# Altium schematic symbol library ComponentsLibrary.SchLib: 10 symbols
Pins are listed as number, name and electrical type; pins without a type are passive.

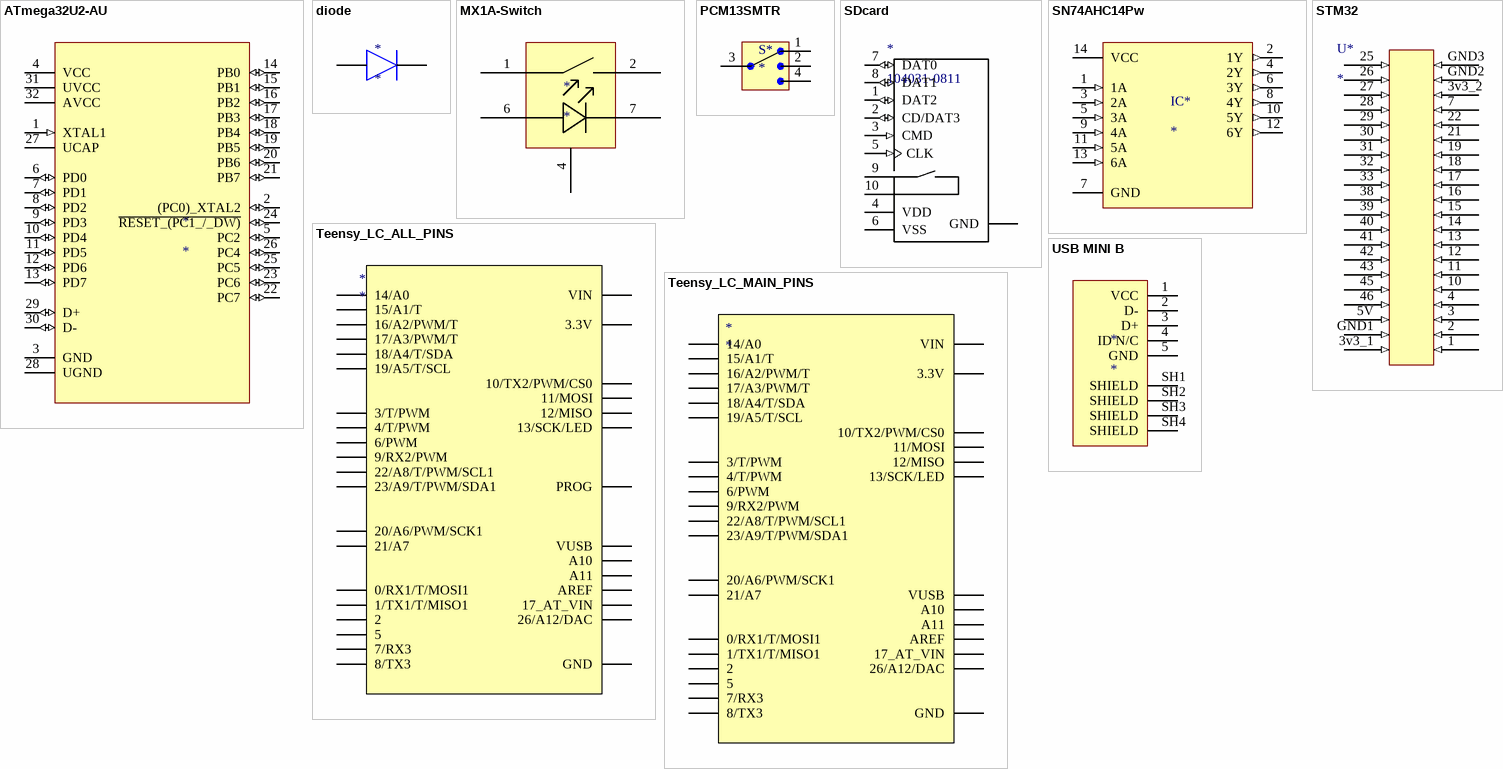
[diagram p0: symbols ATmega32U2-AU to USB MINI B]

## ATmega32U2-AU
designator *
pins: 1 XTAL1 (in), 2 (PC0)_XTAL2 (io), 3 GND, 4 VCC (power), 5 PC2 (io), 6 PD0 (io), 7 PD1 (io), 8 PD2 (io), 9 PD3 (io), 10 PD4 (io), 11 PD5 (io), 12 PD6 (io), 13 PD7 (io), 14 PB0 (io), 15 PB1 (io), 16 PB2 (io), 17 PB3 (io), 18 PB4 (io), 19 PB5 (io), 20 PB6 (io), 21 PB7 (io), 22 PC7 (io), 23 PC6 (io), 24 ~{RESET_(PC1_/_DW)} (io), 25 PC5 (io), 26 PC4 (io), 27 UCAP (power), 28 UGND, 29 D+ (io), 30 D- (io), 31 UVCC (power), 32 AVCC (power)

## diode
designator *
footprint diode
pins: 1 K, 2 A

## MX1A-Switch
designator *
footprint MX1A-Switch
pins: 1, 2, 4, 6, 7

## PCM13SMTR
designator S*
SP3T Ultraminiature surface mount slide switch
footprint PCM-13SMTR (SP3T)
pins: 1, 2, 3, 4

## SDcard
designator *, comment 104031-0811
pins: 1 DAT2 (io), 2 CD/DAT3 (io), 3 CMD (in), 4 VDD (power), 5 CLK (in), 6 VSS (power), 7 DAT0 (io), 8 DAT1 (io), 9 CARD_DET1, 10 CARD_DET2, G1 GND (power), G2 GND (power), G3 GND (power), G4 GND (power)

## SN74AHC14Pw
designator IC*
6 inverting schmitt trigger
footprint TSSOP-14 (for SN74AHC14PW)
pins: 1 1A (in), 2 1Y (out), 3 2A (in), 4 2Y (out), 5 3A (in), 6 3Y (out), 7 GND, 8 4Y (out), 9 4A (in), 10 5Y (out), 11 5A (in), 12 6Y (out), 13 6A (in), 14 VCC (power)

## STM32
designator U*
STM32F103
footprint DIP40
pins: 1 (in), 2 (in), 3 (in), 3v3_1 (in), 3v3_2 (in), 4 (in), 5V (in), 7 (in), 10 (in), 11 (in), 12 (in), 13 (in), 14 (in), 15 (in), 16 (in), 17 (in), 18 (in), 19 (in), 21 (in), 22 (in), 25 (in), 26 (in), 27 (in), 28 (in), 29 (in), 30 (in), 31 (in), 32 (in), 33 (in), 38 (in), 39 (in), 40 (in), 41 (in), 42 (in), 43 (in), 45 (in), 46 (in), GND1 (in), GND2 (in), GND3 (in)

## Teensy_LC_ALL_PINS
designator *
footprint Teensy_LC_ALL_PINS
footprint Teensy_LC_ALL_SMD
pins: 0 0/RX1/T/MOSI1, 1 1/TX1/T/MISO1, 2, 3 3/T/PWM, 3.3V (power), 4 4/T/PWM, 5, 6 6/PWM, 7 7/RX3, 8 8/TX3, 9 9/RX2/PWM, 10 10/TX2/PWM/CS0, 11 11/MOSI, 12 12/MISO, 13 13/SCK/LED, 14/A0, 15/A1 15/A1/T, 16/A2 16/A2/PWM/T, 17/A3 17/A3/PWM/T, 18/A4 18/A4/T/SDA, 19/A5 19/A5/T/SCL, 20/A6 20/A6/PWM/SCK1, 21/A7, 22/A8 22/A8/T/PWM/SCL1, 23/A9 23/A9/T/PWM/SDA1, A10, A11, AREF (power), GND (power), PGM PROG, RESET/DAC 26/A12/DAC (power), VBAT 17_AT_VIN, VIN (power), VUSB (power)

## Teensy_LC_MAIN_PINS
designator *
footprint Teensy_LC_SMD_MAIN
pins: 0 0/RX1/T/MOSI1, 1 1/TX1/T/MISO1, 2, 3 3/T/PWM, 3.3V (power), 4 4/T/PWM, 5, 6 6/PWM, 7 7/RX3, 8 8/TX3, 9 9/RX2/PWM, 10 10/TX2/PWM/CS0, 11 11/MOSI, 12 12/MISO, 13 13/SCK/LED, 14/A0, 15/A1 15/A1/T, 16/A2 16/A2/PWM/T, 17/A3 17/A3/PWM/T, 18/A4 18/A4/T/SDA, 19/A5 19/A5/T/SCL, 20/A6 20/A6/PWM/SCK1, 21/A7, 22/A8 22/A8/T/PWM/SCL1, 23/A9 23/A9/T/PWM/SDA1, A10, A11, AREF (power), GND (power), RESET/DAC 26/A12/DAC (power), VBAT 17_AT_VIN, VIN (power), VUSB (power)

## USB MINI B
designator *
pins: 1 VCC, 2 D-, 3 D+, 4 ID N/C, 5 GND, SH1 SHIELD, SH2 SHIELD, SH3 SHIELD, SH4 SHIELD